# EAGLE library part TPA6017A2 (library ICs)
The TPA6017A2 is a stereo audio power amplifier in a 20-pin TSSOP thermally enhanced package capable of delivering 2 W of continuous RMS power per channel into 3-Ω loads. Internal gain control minimizes the number of external components needed, simplifying the design, and freeing up board space for other features. Amplifier gain is internally configured and controlled by way of two terminals (GAIN0 and GAIN1). Gain settings of 6 dB, 10 dB, 15.6 dB, and 21.6 dB (inverting) are provided.
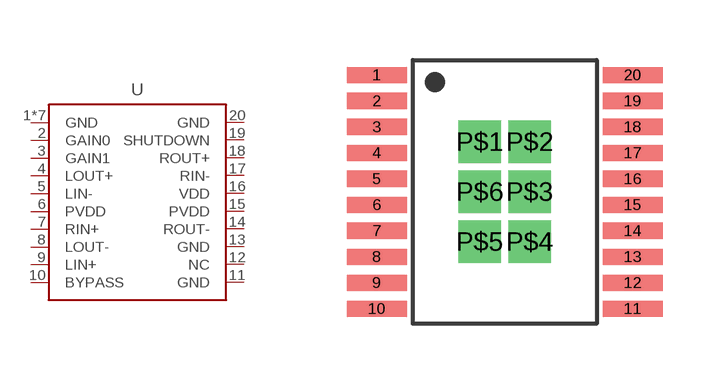
[diagram p7: symbol with the pads of TSSOP20PWP; footprint TSSOP20PWP]

Designator prefix -

## TPA6017A2  [TSSOP20PWP]
1  GND  sup
2  GAIN0  in
3  GAIN1  in
4  LOUT+  out
5  LIN-
6  PVDD  pwr
7  RIN+  in
8  LOUT-  out
9  LIN+  in
10  BYPASS
11  GND  sup
12  NC  nc
13  GND
14  ROUT-  out
15  PVDD  pwr
16  VDD  pwr
17  RIN-  in
18  ROUT+  out
19  SHUTDOWN
20  GND  sup
P$1  GND  sup
P$2  GND  sup
P$3  GND  sup
P$4  GND  sup
P$5  GND  sup
P$6  GND  sup

## Footprint TSSOP20PWP (pad centres in mm)
smd 1.5 x 0.4: 1 -3.2,2.925; 2 -3.2,2.275; 3 -3.2,1.625; 4 -3.2,0.975; 5 -3.2,0.325; 6 -3.2,-0.325; 7 -3.2,-0.975; 8 -3.2,-1.625; 9 -3.2,-2.275; 10 -3.2,-2.925; 11 3.2,-2.925; 12 3.2,-2.275; 13 3.2,-1.625; 14 3.2,-0.975; 15 3.2,-0.325; 16 3.2,0.325; 17 3.2,0.975; 18 3.2,1.625; 19 3.2,2.275; 20 3.2,2.925
drill 0.55 square: P$1 -0.625,1.25; P$2 0.625,1.25; P$3 0.625,0; P$4 0.625,-1.25; P$5 -0.625,-1.25; P$6 -0.625,0